# EAGLE library part ADAFRUIT_BMP388_BREAKOUT (library airball)
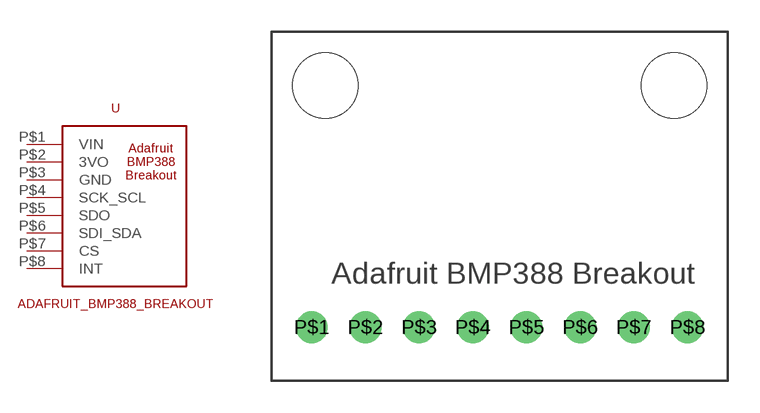
[diagram p17: symbol with the pads of ADAFRUIT_BMP388_BREAKOUT; footprint ADAFRUIT_BMP388_BREAKOUT]

Designator prefix -

## ADAFRUIT_BMP388_BREAKOUT  [ADAFRUIT_BMP388_BREAKOUT]
P$1  VIN
P$2  3VO
P$3  GND
P$4  SCK_SCL
P$5  SDO
P$6  SDI_SDA
P$7  CS
P$8  INT

## Footprint ADAFRUIT_BMP388_BREAKOUT (pad centres in mm)
drill 1: P$1 1.905,2.54; P$2 4.445,2.54; P$3 6.985,2.54; P$4 9.525,2.54; P$5 12.065,2.54; P$6 14.605,2.54; P$7 17.145,2.54; P$8 19.685,2.54
hole 3.099 at 2.54,13.97
hole 3.099 at 19.05,13.97